# Altium schematic symbol library WSLP5931L1000FEA.SchLib: 1 symbol
Pins are listed as number, name and electrical type; pins without a type are passive.

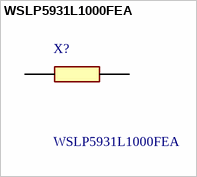
[diagram p0: symbol WSLP5931L1000FEA]

## WSLP5931L1000FEA
designator X?
Current Sense Resistors - SMD 0.0001 ohm 1%; Manufacturer_Name: Vishay; Geometry.Height: 1mm; Mouser Part Number: 71-WSLP5931L1000FEA; Mouser Price/Stock: https://www.mouser.co.uk/ProductDetail/Vishay-Dale/WSLP5931L1000FEA?qs=AQlKX63v8Rs%252BJpQIynINvA%3D%3D; Manufacturer_Part_Number: WSLP5931L1000FEA; Datasheet Link: https://datasheet.datasheetarchive.com/originals/distributors/Datasheets_SAMA/cd369b67f640568f5c60fc944b86acf3.pdf
footprint RESC15077X100N
pins: 1, 2